# Altium schematic symbol library Isolator.SchLib: 324 symbols (part 1 of 4)
Pins are listed as number, name and electrical type; pins without a type are passive.

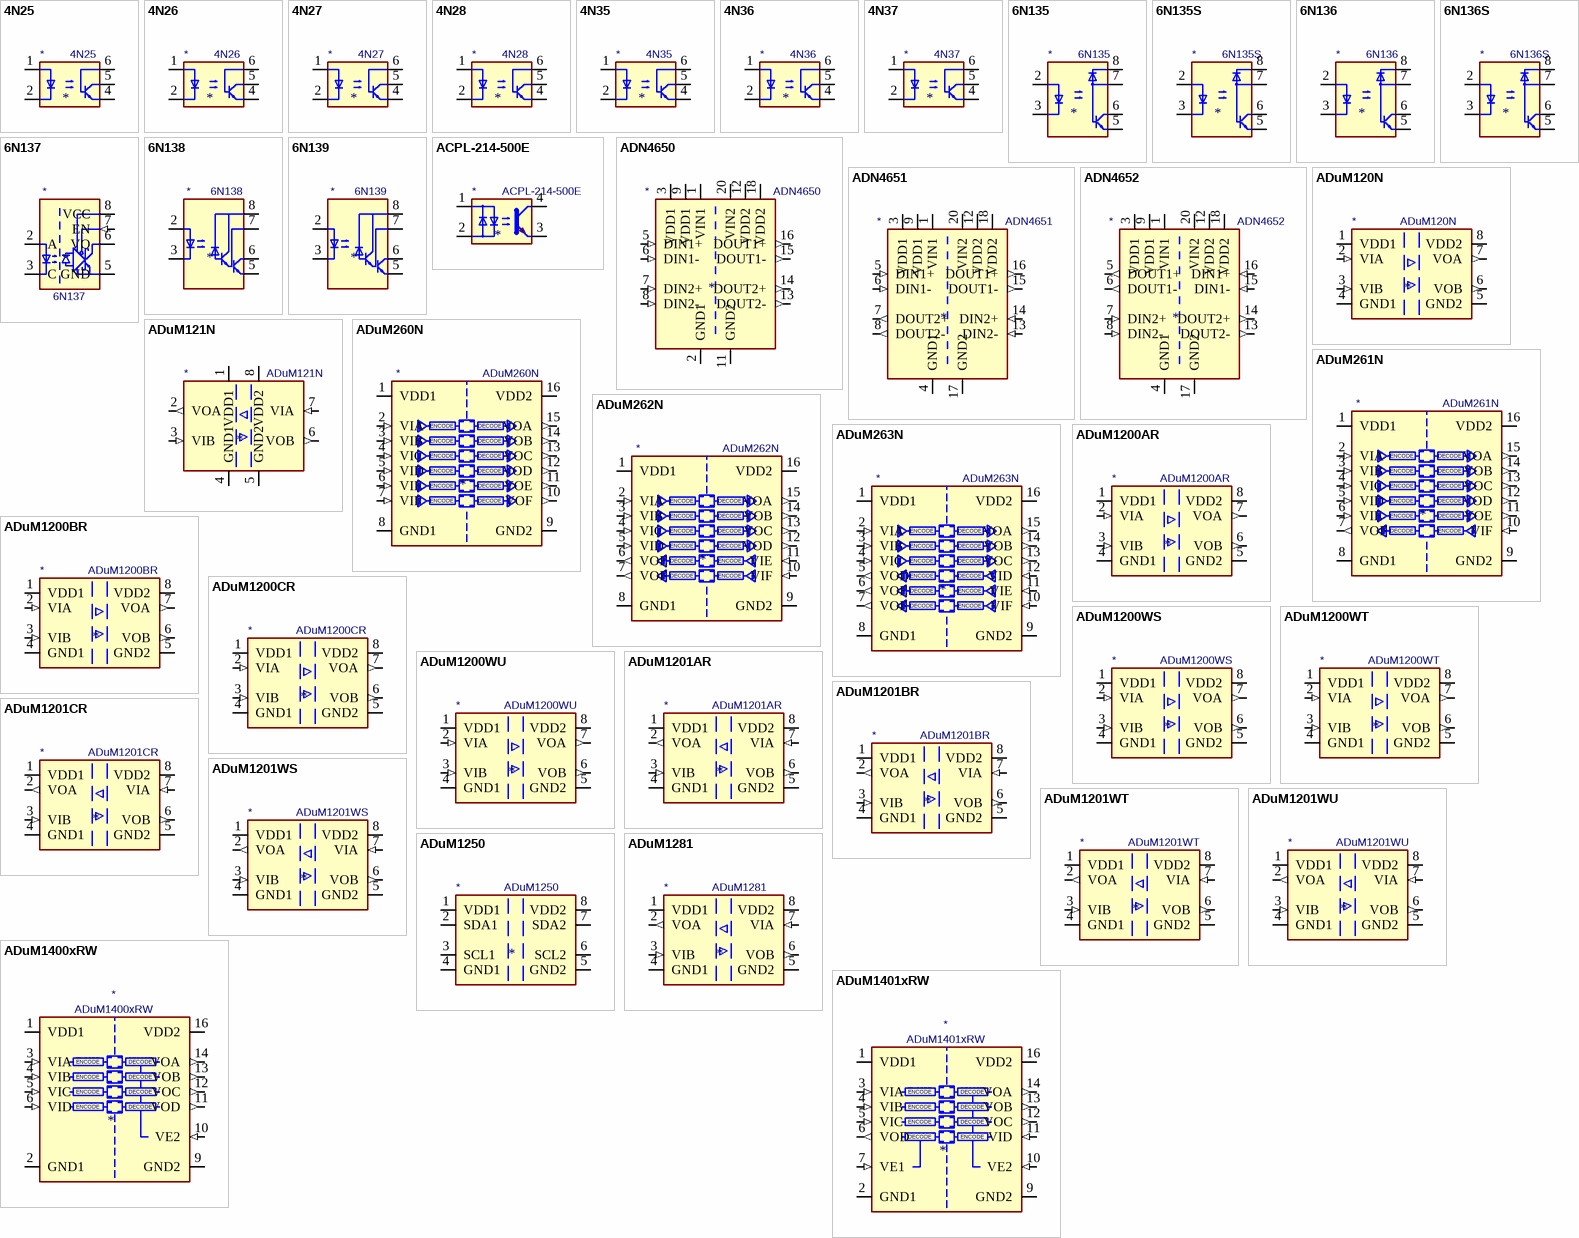
[diagram p0: symbols 4N25 to ADuM1401xRW]

## 4N25
designator *  value 4N25
ki_keywords: NPN DC Optocoupler Base Connected; ki_description: DC Optocoupler Base Connected, Vce 30V, CTR 20%, Viso 2500V, DIP6; ki_fp_filters: DIP*W7.62mm*; Footprint: Package_DIP:DIP-6_W7.62mm; Supplier: https://www.vishay.com/docs/83725/4n25.pdf
footprint DIP-6_W7.62mm
pins: 1, 2, 3 NC (in) hidden, 4, 5, 6

## 4N26
designator *  value 4N26
ki_keywords: NPN DC Optocoupler Base Connected; ki_description: DC Optocoupler Base Connected, Vce 30V, CTR 20%, Viso 1500V, DIP6; ki_fp_filters: DIP*W7.62mm*; Footprint: Package_DIP:DIP-6_W7.62mm; Supplier: https://www.vishay.com/docs/83725/4n25.pdf
footprint DIP-6_W7.62mm
pins: 1, 2, 3 NC (in) hidden, 4, 5, 6

## 4N27
designator *  value 4N27
ki_keywords: NPN DC Optocoupler Base Connected; ki_description: DC Optocoupler Base Connected, Vce 30V, CTR 10%, Viso 2500V, DIP6; ki_fp_filters: DIP*W7.62mm*; Footprint: Package_DIP:DIP-6_W7.62mm; Supplier: https://www.vishay.com/docs/83725/4n25.pdf
footprint DIP-6_W7.62mm
pins: 1, 2, 3 NC (in) hidden, 4, 5, 6

## 4N28
designator *  value 4N28
ki_keywords: NPN DC Optocoupler Base Connected; ki_description: DC Optocoupler Base Connected, Vce 30V, CTR 10%, Viso 2500V, DIP6; ki_fp_filters: DIP*W7.62mm*; Footprint: Package_DIP:DIP-6_W7.62mm; Supplier: https://www.vishay.com/docs/83725/4n25.pdf
footprint DIP-6_W7.62mm
pins: 1, 2, 3 NC (in) hidden, 4, 5, 6

## 4N35
designator *  value 4N35
ki_keywords: NPN DC Optocoupler Base Connected; ki_description: Optocoupler, Phototransistor Output, with Base Connection, Vce 70V, CTR 100%, Viso 5000V, DIP6; ki_fp_filters: DIP*W7.62mm*; Footprint: Package_DIP:DIP-6_W7.62mm; Supplier: https://www.vishay.com/docs/81181/4n35.pdf
footprint DIP-6_W7.62mm
pins: 1, 2, 3 NC (in) hidden, 4, 5, 6

## 4N36
designator *  value 4N36
ki_keywords: NPN DC Optocoupler Base Connected; ki_description: Optocoupler, Phototransistor Output, with Base Connection, Vce 70V, CTR 100%, Viso 5000V, DIP6; ki_fp_filters: DIP*W7.62mm*; Footprint: Package_DIP:DIP-6_W7.62mm; Supplier: https://www.vishay.com/docs/81181/4n35.pdf
footprint DIP-6_W7.62mm
pins: 1, 2, 3 NC (in) hidden, 4, 5, 6

## 4N37
designator *  value 4N37
ki_keywords: NPN DC Optocoupler Base Connected; ki_description: Optocoupler, Phototransistor Output, with Base Connection, Vce 70V, CTR 100%, Viso 5000V, DIP6; ki_fp_filters: DIP*W7.62mm*; Footprint: Package_DIP:DIP-6_W7.62mm; Supplier: https://www.vishay.com/docs/81181/4n35.pdf
footprint DIP-6_W7.62mm
pins: 1, 2, 3 NC (in) hidden, 4, 5, 6

## 6N135
designator *  value 6N135
ki_keywords: High Speed Optocoupler; ki_description: High Speed Optocoupler, TTL Compatible, CTR 18%, DIP8; ki_fp_filters: DIP*W7.62mm*; Footprint: Package_DIP:DIP-8_W7.62mm; Supplier: https://optoelectronics.liteon.com/upload/download/DS70-2008-0032/6N135-L%206N136-L%20series.pdf
footprint DIP-8_W7.62mm
pins: 1 NC (in) hidden, 2, 3, 4 NC (in) hidden, 5, 6, 7, 8

## 6N135S
designator *  value 6N135S
ki_keywords: High Speed Optocoupler; ki_description: High Speed Optocoupler, TTL Compatible, CTR 18%, SMDIP8; ki_fp_filters: SMDIP*W9.53mm*; Footprint: Package_DIP:SMDIP-8_W9.53mm; Supplier: https://optoelectronics.liteon.com/upload/download/DS70-2008-0032/6N135-L%206N136-L%20series.pdf
footprint SMDIP-8_W9.53mm
pins: 1 NC (in) hidden, 2, 3, 4 NC (in) hidden, 5, 6, 7, 8

## 6N136
designator *  value 6N136
ki_keywords: High Speed Optocoupler; ki_description: High Speed Optocoupler, TTL Compatible, CTR 24%, DIP8; ki_fp_filters: DIP*W7.62mm*; Footprint: Package_DIP:DIP-8_W7.62mm; Supplier: https://optoelectronics.liteon.com/upload/download/DS70-2008-0032/6N135-L%206N136-L%20series.pdf
footprint DIP-8_W7.62mm
pins: 1 NC (in) hidden, 2, 3, 4 NC (in) hidden, 5, 6, 7, 8

## 6N136S
designator *  value 6N136S
ki_keywords: High Speed Optocoupler; ki_description: High Speed Optocoupler, TTL Compatible, CTR 18%, SMDIP8; ki_fp_filters: SMDIP*W9.53mm*; Footprint: Package_DIP:SMDIP-8_W9.53mm; Supplier: https://optoelectronics.liteon.com/upload/download/DS70-2008-0032/6N135-L%206N136-L%20series.pdf
footprint SMDIP-8_W9.53mm
pins: 1 NC (in) hidden, 2, 3, 4 NC (in) hidden, 5, 6, 7, 8

## 6N137
designator *  value 6N137
ki_keywords: High speed optically coupled gates enable; ki_description: Single High Speed LSTTL/TTL Compatible Optocoupler with enable, dV/dt 1000/us, VCM 10, max 7V VCC, DIP-8; ki_fp_filters: DIP*W7.62mm*; Footprint: Package_DIP:DIP-8_W7.62mm; Supplier: https://docs.broadcom.com/docs/AV02-0940EN
footprint DIP-8_W7.62mm
pins: 1 NC (in) hidden, 2 A, 3 C, 5 GND (power), 6 VO (oc), 7 EN (in), 8 VCC (power)

## 6N138
designator *  value 6N138
ki_keywords: darlington optocoupler; ki_description: Low Input Current high Gain Split Darlington Optocouplers, -0.5V to 7V VDD, DIP-8; ki_fp_filters: DIP*W7.62mm* SMDIP*W9.53mm*; Supplier: http://www.onsemi.com/pub/Collateral/HCPL2731-D.pdf
pins: 1 NC (in) hidden, 2 C1, 3 C2, 4 NC (in) hidden, 5 GND, 6 VO2, 7 VO1, 8 VCC

## 6N139
designator *  value 6N139
ki_keywords: darlington optocoupler; ki_description: Low Input Current high Gain Split Darlington Optocouplers, -0.5V to 18V VDD, DIP-8; ki_fp_filters: DIP*W7.62mm* SMDIP*W9.53mm*; Supplier: http://www.onsemi.com/pub/Collateral/HCPL2731-D.pdf
pins: 1 NC (in) hidden, 2 C1, 3 C2, 4 NC (in) hidden, 5 GND, 6 VO2, 7 VO1, 8 VCC

## ACPL-214-500E
designator *  value ACPL-214-500E
ki_keywords: npn ac dc ac-dc acdc phototransistor optocoupler optoisolator; ki_description: AC/DC Phototransistor Optocoupler, Vce 80V, CTR 20-400%, SOP-4; ki_fp_filters: SOP*4*4.4x2.6mm*P1.27mm*; Footprint: Package_SO:SOP-4_4.4x2.6mm_P1.27mm; Supplier: https://docs.broadcom.com/doc/AV02-0469EN
footprint SOP-4_4.4x2.6mm_P1.27mm
pins: 1, 2, 3, 4

## ADN4650
designator *  value ADN4650
ki_keywords: LVDS Isolator; ki_description: Dual-Channel LVDS Isolators, 5 kV RMS/3.75 kV RMS, 600 Mbps, SSOP-20; ki_fp_filters: SSOP*5.3x7.2mm*P0.65mm*; Footprint: Package_SO:SSOP-20_5.3x7.2mm_P0.65mm; Supplier: https://www.analog.com/media/en/technical-documentation/data-sheets/adn4650-4651-4652.pdf
footprint SSOP-20_5.3x7.2mm_P0.65mm
pins: 1 VIN1 (power), 2 GND1 (power), 3 VDD1 (power), 4 GND1 hidden, 5 DIN1+ (in), 6 DIN1- (in), 7 DIN2+ (in), 8 DIN2- (in), 9 VDD1 (power), 10 GND1 hidden, 11 GND2 (power), 12 VDD2 (power), 13 DOUT2- (out), 14 DOUT2+ (out), 15 DOUT1- (out), 16 DOUT1+ (out), 17 GND2 hidden, 18 VDD2 (power), 19 GND2 hidden, 20 VIN2 (power)

## ADN4651
designator *  value ADN4651
ki_keywords: LVDS Isolator; ki_description: Dual-Channel LVDS Isolators, 5 kV RMS/3.75 kV RMS, 600 Mbps, SSOP-20; ki_fp_filters: SSOP*5.3x7.2mm*P0.65mm*; Footprint: Package_SO:SSOP-20_5.3x7.2mm_P0.65mm; Supplier: https://www.analog.com/media/en/technical-documentation/data-sheets/adn4650-4651-4652.pdf
footprint SSOP-20_5.3x7.2mm_P0.65mm
pins: 1 VIN1 (power), 2 GND1 hidden, 3 VDD1 (power), 4 GND1 (power), 5 DIN1+ (in), 6 DIN1- (in), 7 DOUT2+ (out), 8 DOUT2- (out), 9 VDD1 (power), 10 GND1 hidden, 11 GND2 hidden, 12 VDD2 (power), 13 DIN2- (in), 14 DIN2+ (in), 15 DOUT1- (out), 16 DOUT1+ (out), 17 GND2 (power), 18 VDD2 (power), 19 GND2 hidden, 20 VIN2 (power)

## ADN4652
designator *  value ADN4652
ki_keywords: LVDS Isolator; ki_description: Dual-Channel LVDS Isolators, 5 kV RMS/3.75 kV RMS, 600 Mbps, SSOP-20; ki_fp_filters: SSOP*5.3x7.2mm*P0.65mm*; Footprint: Package_SO:SSOP-20_5.3x7.2mm_P0.65mm; Supplier: https://www.analog.com/media/en/technical-documentation/data-sheets/adn4650-4651-4652.pdf
footprint SSOP-20_5.3x7.2mm_P0.65mm
pins: 1 VIN1 (power), 2 GND1 hidden, 3 VDD1 (power), 4 GND1 (power), 5 DOUT1+ (out), 6 DOUT1- (out), 7 DIN2+ (in), 8 DIN2- (in), 9 VDD1 (power), 10 GND1 hidden, 11 GND2 hidden, 12 VDD2 (power), 13 DOUT2- (out), 14 DOUT2+ (out), 15 DIN1- (in), 16 DIN1+ (in), 17 GND2 (power), 18 VDD2 (power), 19 GND2 hidden, 20 VIN2 (power)

## ADuM120N
designator *  value ADuM120N
ki_keywords: Dual-channel digital isolator; ki_description: Dual-channel digital isolator,1.8 to 5V, 150Mbs, 3kV; ki_fp_filters: SOIC*3.9x4.9mm*P1.27mm*; Footprint: Package_SO:SOIC-8_3.9x4.9mm_P1.27mm; Supplier: https://www.analog.com/media/en/technical-documentation/data-sheets/ADuM120N_121N.pdf
footprint SOIC-8_3.9x4.9mm_P1.27mm
pins: 1 VDD1 (power), 2 VIA (in), 3 VIB (in), 4 GND1 (power), 5 GND2 (power), 6 VOB (out), 7 VOA (out), 8 VDD2 (power)

## ADuM121N
designator *  value ADuM121N
ki_keywords: Dual-channel digital isolator; ki_description: Dual-channel digital isolator,1.8 to 5V, 150Mbs, 3kV; ki_fp_filters: SOIC*3.9x4.9mm*P1.27mm*; Footprint: Package_SO:SOIC-8_3.9x4.9mm_P1.27mm; Supplier: https://www.analog.com/media/en/technical-documentation/data-sheets/ADuM120N_121N.pdf
footprint SOIC-8_3.9x4.9mm_P1.27mm
pins: 1 VDD1 (power), 2 VOA (out), 3 VIB (in), 4 GND1 (power), 5 GND2 (power), 6 VOB (out), 7 VIA (in), 8 VDD2 (power)

## ADuM260N
designator *  value ADuM260N
ki_keywords: digital isolator galvanic isopower; ki_description: 5.0 kV RMS, 6-Channel Digital Isolator, 0 reverse channels, SOIC-16; ki_fp_filters: SOIC*7.5x12.8mm*P1.27mm*; Footprint: Package_SO:SOIC-16W_7.5x12.8mm_P1.27mm; Supplier: http://www.analog.com/media/en/technical-documentation/data-sheets/ADuM260N-261N-262N-263N.pdf
footprint SOIC-16W_7.5x12.8mm_P1.27mm
pins: 1 VDD1 (power), 2 VIA (in), 3 VIB (in), 4 VIC (in), 5 VID (in), 6 VIE (in), 7 VIF (in), 8 GND1 (power), 9 GND2 (power), 10 VOF (out), 11 VOE (out), 12 VOD (out), 13 VOC (out), 14 VOB (out), 15 VOA (out), 16 VDD2 (power)
text: ENCODE; DECODE

## ADuM261N
designator *  value ADuM261N
ki_keywords: digital isolator galvanic isopower; ki_description: 5.0 kV RMS, 6-Channel Digital Isolator, 1 reverse channels, SOIC-16; ki_fp_filters: SOIC*7.5x12.8mm*P1.27mm*; Footprint: Package_SO:SOIC-16W_7.5x12.8mm_P1.27mm; Supplier: http://www.analog.com/media/en/technical-documentation/data-sheets/ADuM260N-261N-262N-263N.pdf
footprint SOIC-16W_7.5x12.8mm_P1.27mm
pins: 1 VDD1 (power), 2 VIA (in), 3 VIB (in), 4 VIC (in), 5 VID (in), 6 VIE (in), 7 VOF (out), 8 GND1 (power), 9 GND2 (power), 10 VIF (in), 11 VOE (out), 12 VOD (out), 13 VOC (out), 14 VOB (out), 15 VOA (out), 16 VDD2 (power)
text: ENCODE; DECODE

## ADuM262N
designator *  value ADuM262N
ki_keywords: digital isolator galvanic isopower; ki_description: 5.0 kV RMS, 6-Channel Digital Isolator, 2 reverse channels, SOIC-16; ki_fp_filters: SOIC*7.5x12.8mm*P1.27mm*; Footprint: Package_SO:SOIC-16W_7.5x12.8mm_P1.27mm; Supplier: http://www.analog.com/media/en/technical-documentation/data-sheets/ADuM260N-261N-262N-263N.pdf
footprint SOIC-16W_7.5x12.8mm_P1.27mm
pins: 1 VDD1 (power), 2 VIA (in), 3 VIB (in), 4 VIC (in), 5 VID (in), 6 VOE (out), 7 VOF (out), 8 GND1 (power), 9 GND2 (power), 10 VIF (in), 11 VIE (in), 12 VOD (out), 13 VOC (out), 14 VOB (out), 15 VOA (out), 16 VDD2 (power)
text: ENCODE; DECODE

## ADuM263N
designator *  value ADuM263N
ki_keywords: digital isolator galvanic isopower; ki_description: 5.0 kV RMS, 6-Channel Digital Isolator, 3 reverse channels, SOIC-16; ki_fp_filters: SOIC*7.5x12.8mm*P1.27mm*; Footprint: Package_SO:SOIC-16W_7.5x12.8mm_P1.27mm; Supplier: http://www.analog.com/media/en/technical-documentation/data-sheets/ADuM260N-261N-262N-263N.pdf
footprint SOIC-16W_7.5x12.8mm_P1.27mm
pins: 1 VDD1 (power), 2 VIA (in), 3 VIB (in), 4 VIC (in), 5 VOD (out), 6 VOE (out), 7 VOF (out), 8 GND1 (power), 9 GND2 (power), 10 VIF (in), 11 VIE (in), 12 VID (in), 13 VOC (out), 14 VOB (out), 15 VOA (out), 16 VDD2 (power)
text: ENCODE; DECODE

## ADuM1200AR
designator *  value ADuM1200AR
ki_keywords: Dual-channel digital isolator; ki_description: Dual-channel digital isolator, Bidirectional communication, 3V/5V level translation, SOIC-8; ki_fp_filters: SOIC*3.9x4.9mm*P1.27mm*; Footprint: Package_SO:SOIC-8_3.9x4.9mm_P1.27mm; Supplier: https://www.analog.com/media/en/technical-documentation/data-sheets/ADuM1200_1201.pdf
footprint SOIC-8_3.9x4.9mm_P1.27mm
pins: 1 VDD1 (power), 2 VIA (in), 3 VIB (in), 4 GND1 (power), 5 GND2 (power), 6 VOB (out), 7 VOA (out), 8 VDD2 (power)

## ADuM1200BR
designator *  value ADuM1200BR
ki_keywords: 2Ch Dual Digital Isolator 10Mbps; ki_description: Dual-Channel Digital Isolator, 10Mbps 50ns, bidirectional communication, 3V/5V level translation, SOIC-8; ki_fp_filters: SOIC*3.9x4.9mm*P1.27mm*; Footprint: Package_SO:SOIC-8_3.9x4.9mm_P1.27mm; Supplier: https://www.analog.com/static/imported-files/data_sheets/ADuM1200_1201.pdf
footprint SOIC-8_3.9x4.9mm_P1.27mm
pins: 1 VDD1 (power), 2 VIA (in), 3 VIB (in), 4 GND1 (power), 5 GND2 (power), 6 VOB (out), 7 VOA (out), 8 VDD2 (power)

## ADuM1200CR
designator *  value ADuM1200CR
ki_keywords: 2Ch Dual Digital Isolator 25Mbps; ki_description: Dual-Channel Digital Isolator, 25Mbps 45ns, bidirectional communication, 3V/5V level translation, SOIC-8; ki_fp_filters: SOIC*3.9x4.9mm*P1.27mm*; Footprint: Package_SO:SOIC-8_3.9x4.9mm_P1.27mm; Supplier: https://www.analog.com/static/imported-files/data_sheets/ADuM1200_1201.pdf
footprint SOIC-8_3.9x4.9mm_P1.27mm
pins: 1 VDD1 (power), 2 VIA (in), 3 VIB (in), 4 GND1 (power), 5 GND2 (power), 6 VOB (out), 7 VOA (out), 8 VDD2 (power)

## ADuM1200WS
designator *  value ADuM1200WS
ki_keywords: 2Ch Dual Digital Isolator 1Mbps; ki_description: Dual-Channel Digital Isolator, 1Mbps 150ns, Highest Tem. Grade, bidirectional communication, 3V/5V level translation, SOIC-8; ki_fp_filters: SOIC*3.9x4.9mm*P1.27mm*; Footprint: Package_SO:SOIC-8_3.9x4.9mm_P1.27mm; Supplier: https://www.analog.com/static/imported-files/data_sheets/ADuM1200_1201.pdf
footprint SOIC-8_3.9x4.9mm_P1.27mm
pins: 1 VDD1 (power), 2 VIA (in), 3 VIB (in), 4 GND1 (power), 5 GND2 (power), 6 VOB (out), 7 VOA (out), 8 VDD2 (power)

## ADuM1200WT
designator *  value ADuM1200WT
ki_keywords: 2Ch Dual Digital Isolator 10Mbps; ki_description: Dual-Channel Digital Isolator, 10Mbps 50ns, Highest Tem. Grade, bidirectional communication, 3V/5V level translation, SOIC-8; ki_fp_filters: SOIC*3.9x4.9mm*P1.27mm*; Footprint: Package_SO:SOIC-8_3.9x4.9mm_P1.27mm; Supplier: https://www.analog.com/static/imported-files/data_sheets/ADuM1200_1201.pdf
footprint SOIC-8_3.9x4.9mm_P1.27mm
pins: 1 VDD1 (power), 2 VIA (in), 3 VIB (in), 4 GND1 (power), 5 GND2 (power), 6 VOB (out), 7 VOA (out), 8 VDD2 (power)

## ADuM1200WU
designator *  value ADuM1200WU
ki_keywords: 2Ch Dual Digital Isolator 25Mbps; ki_description: Dual-Channel Digital Isolator, 25Mbps 45ns, Highest Tem. Grade, bidirectional communication, 3V/5V level translation, SOIC-8; ki_fp_filters: SOIC*3.9x4.9mm*P1.27mm*; Footprint: Package_SO:SOIC-8_3.9x4.9mm_P1.27mm; Supplier: https://www.analog.com/static/imported-files/data_sheets/ADuM1200_1201.pdf
footprint SOIC-8_3.9x4.9mm_P1.27mm
pins: 1 VDD1 (power), 2 VIA (in), 3 VIB (in), 4 GND1 (power), 5 GND2 (power), 6 VOB (out), 7 VOA (out), 8 VDD2 (power)

## ADuM1201AR
designator *  value ADuM1201AR
ki_keywords: Dual-channel digital isolator; ki_description: Dual-channel digital isolator, bidirectional communication, 3V/5V level translation, SOIC-8; ki_fp_filters: SOIC*3.9x4.9mm*P1.27mm*; Footprint: Package_SO:SOIC-8_3.9x4.9mm_P1.27mm; Supplier: https://www.analog.com/media/en/technical-documentation/data-sheets/ADuM1200_1201.pdf
footprint SOIC-8_3.9x4.9mm_P1.27mm
pins: 1 VDD1 (power), 2 VOA (out), 3 VIB (in), 4 GND1 (power), 5 GND2 (power), 6 VOB (out), 7 VIA (in), 8 VDD2 (power)

## ADuM1201BR
designator *  value ADuM1201BR
ki_keywords: 2Ch Dual Digital Isolator 10Mbps; ki_description: Dual-Channel Digital Isolator, 10Mbps 50ns, bidirectional communication, 3V/5V level translation, SOIC-8; ki_fp_filters: SOIC*3.9x4.9mm*P1.27mm*; Footprint: Package_SO:SOIC-8_3.9x4.9mm_P1.27mm; Supplier: https://www.analog.com/static/imported-files/data_sheets/ADuM1200_1201.pdf
footprint SOIC-8_3.9x4.9mm_P1.27mm
pins: 1 VDD1 (power), 2 VOA (out), 3 VIB (in), 4 GND1 (power), 5 GND2 (power), 6 VOB (out), 7 VIA (in), 8 VDD2 (power)

## ADuM1201CR
designator *  value ADuM1201CR
ki_keywords: 2Ch Dual Digital Isolator 25Mbps; ki_description: Dual-Channel Digital Isolator, 25Mbps 45ns, bidirectional communication, 3V/5V level translation, SOIC-8; ki_fp_filters: SOIC*3.9x4.9mm*P1.27mm*; Footprint: Package_SO:SOIC-8_3.9x4.9mm_P1.27mm; Supplier: https://www.analog.com/static/imported-files/data_sheets/ADuM1200_1201.pdf
footprint SOIC-8_3.9x4.9mm_P1.27mm
pins: 1 VDD1 (power), 2 VOA (out), 3 VIB (in), 4 GND1 (power), 5 GND2 (power), 6 VOB (out), 7 VIA (in), 8 VDD2 (power)

## ADuM1201WS
designator *  value ADuM1201WS
ki_keywords: 2Ch Dual Digital Isolator 1Mbps; ki_description: Dual-Channel Digital Isolator, 1Mbps 150ns, Highest Temp. Grade, bidirectional communication, 3V/5V level translation, SOIC-8; ki_fp_filters: SOIC*3.9x4.9mm*P1.27mm*; Footprint: Package_SO:SOIC-8_3.9x4.9mm_P1.27mm; Supplier: https://www.analog.com/static/imported-files/data_sheets/ADuM1200_1201.pdf
footprint SOIC-8_3.9x4.9mm_P1.27mm
pins: 1 VDD1 (power), 2 VOA (out), 3 VIB (in), 4 GND1 (power), 5 GND2 (power), 6 VOB (out), 7 VIA (in), 8 VDD2 (power)

## ADuM1201WT
designator *  value ADuM1201WT
ki_keywords: 2Ch Dual Digital Isolator 10Mbps; ki_description: Dual-Channel Digital Isolator, 10Mbps 50ns, Hihgest Temp. Grade, bidirectional communication, 3V/5V level translation, SOIC-8; ki_fp_filters: SOIC*3.9x4.9mm*P1.27mm*; Footprint: Package_SO:SOIC-8_3.9x4.9mm_P1.27mm; Supplier: https://www.analog.com/static/imported-files/data_sheets/ADuM1200_1201.pdf
footprint SOIC-8_3.9x4.9mm_P1.27mm
pins: 1 VDD1 (power), 2 VOA (out), 3 VIB (in), 4 GND1 (power), 5 GND2 (power), 6 VOB (out), 7 VIA (in), 8 VDD2 (power)

## ADuM1201WU
designator *  value ADuM1201WU
ki_keywords: 2Ch Dual Digital Isolator 25Mbps; ki_description: Dual-Channel Digital Isolator, 25Mbps 45ns, Highest Temp. Grade, bidirectional communication, 3V/5V level translation, SOIC-8; ki_fp_filters: SOIC*3.9x4.9mm*P1.27mm*; Footprint: Package_SO:SOIC-8_3.9x4.9mm_P1.27mm; Supplier: https://www.analog.com/static/imported-files/data_sheets/ADuM1200_1201.pdf
footprint SOIC-8_3.9x4.9mm_P1.27mm
pins: 1 VDD1 (power), 2 VOA (out), 3 VIB (in), 4 GND1 (power), 5 GND2 (power), 6 VOB (out), 7 VIA (in), 8 VDD2 (power)

## ADuM1250
designator *  value ADuM1250
ki_keywords: Dual-channel digital isolator I2C; ki_description: Dual-channel I2C digital isolator, Bidirectional communication, 3V/5V level translation, SOIC-8; ki_fp_filters: SOIC*3.9x4.9mm*P1.27mm*; Footprint: Package_SO:SOIC-8_3.9x4.9mm_P1.27mm; Supplier: https://www.analog.com/media/en/technical-documentation/data-sheets/ADuM1250_1251.pdf
footprint SOIC-8_3.9x4.9mm_P1.27mm
pins: 1 VDD1 (power), 2 SDA1 (io), 3 SCL1 (io), 4 GND1 (power), 5 GND2 (power), 6 SCL2 (io), 7 SDA2 (io), 8 VDD2 (power)

## ADuM1281
designator *  value ADuM1281
ki_keywords: Dual-channel digital isolator; ki_description: Dual-channel digital isolator, bidirectional communication, 3V/5V level translation, SOIC-8; ki_fp_filters: SOIC*3.9x4.9mm*P1.27mm*; Footprint: Package_SO:SOIC-8_3.9x4.9mm_P1.27mm; Supplier: https://www.analog.com/media/en/technical-documentation/data-sheets/ADuM1280_1281_1285_1286.pdf
footprint SOIC-8_3.9x4.9mm_P1.27mm
pins: 1 VDD1 (power), 2 VOA (out), 3 VIB (in), 4 GND1 (power), 5 GND2 (power), 6 VOB (out), 7 VIA (in), 8 VDD2 (power)

## ADuM1400xRW
designator *  value ADuM1400xRW
ki_keywords: Digital Isolator; ki_description: Quad Channel Digital Isolator, 10Mbps, SOIC-16; ki_fp_filters: SOIC*7.5x10.3mm*P1.27mm*; Footprint: Package_SO:SOIC-16W_7.5x10.3mm_P1.27mm; Supplier: https://www.analog.com/media/en/technical-documentation/data-sheets/ADUM1400_1401_1402.pdf
footprint SOIC-16W_7.5x10.3mm_P1.27mm
pins: 1 VDD1 (power), 2 GND1 (power), 3 VIA (in), 4 VIB (in), 5 VIC (in), 6 VID (in), 7 NC (in) hidden, 8 GND1 hidden, 9 GND2 (power), 10 VE2 (in), 11 VOD (out), 12 VOC (out), 13 VOB (out), 14 VOA (out), 15 GND2 hidden, 16 VDD2 (power)
text: ENCODE; DECODE

## ADuM1401xRW
designator *  value ADuM1401xRW
ki_keywords: Digital Isolator; ki_description: Quad Channel Digital Isolator, 10Mbps, SOIC-16; ki_fp_filters: SOIC*7.5x10.3mm*P1.27mm*; Footprint: Package_SO:SOIC-16W_7.5x10.3mm_P1.27mm; Supplier: https://www.analog.com/media/en/technical-documentation/data-sheets/ADUM1400_1401_1402.pdf
footprint SOIC-16W_7.5x10.3mm_P1.27mm
pins: 1 VDD1 (power), 2 GND1 (power), 3 VIA (in), 4 VIB (in), 5 VIC (in), 6 VOD (out), 7 VE1 (in), 8 GND1 hidden, 9 GND2 (power), 10 VE2 (in), 11 VID (in), 12 VOC (out), 13 VOB (out), 14 VOA (out), 15 GND2 hidden, 16 VDD2 (power)
text: ENCODE; DECODE

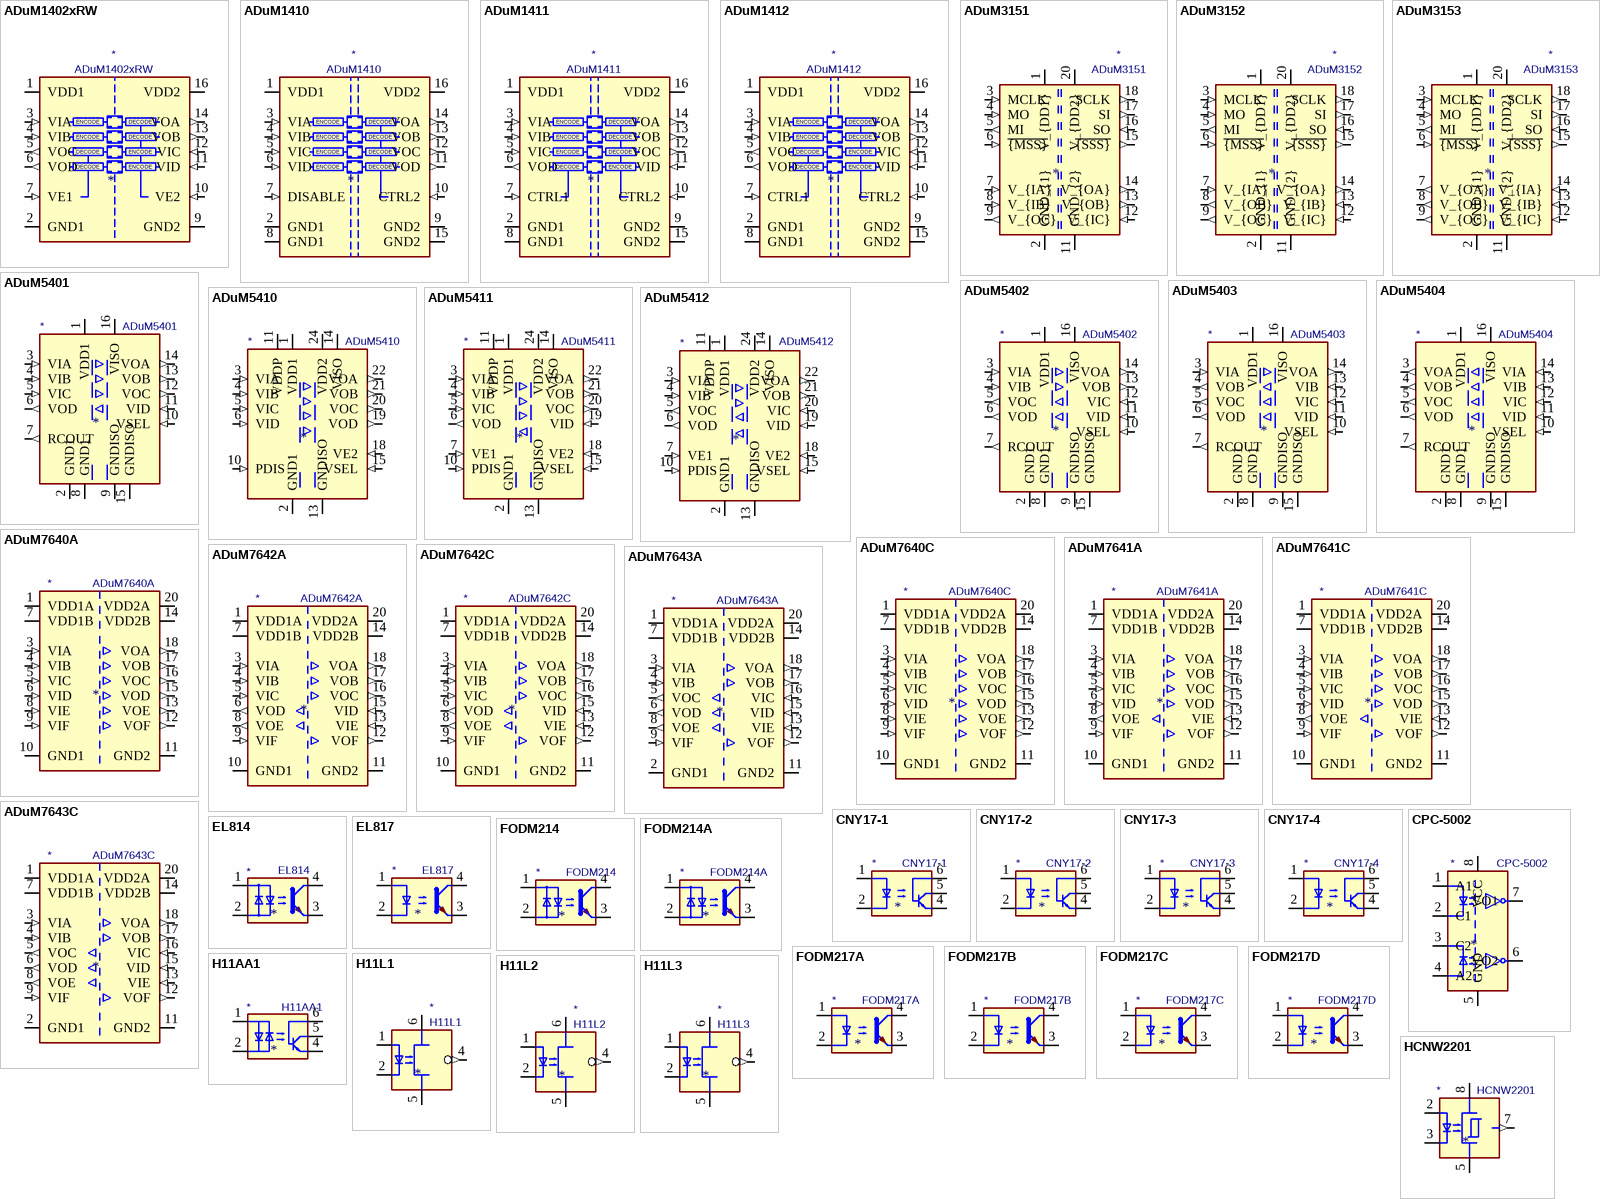
[diagram p1: symbols ADuM1402xRW to HCNW2201]

## ADuM1402xRW
designator *  value ADuM1402xRW
ki_keywords: Digital Isolator; ki_description: Quad Channel Digital Isolator, 10Mbps, SOIC-16; ki_fp_filters: SOIC*7.5x10.3mm*P1.27mm*; Footprint: Package_SO:SOIC-16W_7.5x10.3mm_P1.27mm; Supplier: https://www.analog.com/media/en/technical-documentation/data-sheets/ADUM1400_1401_1402.pdf
footprint SOIC-16W_7.5x10.3mm_P1.27mm
pins: 1 VDD1 (power), 2 GND1 (power), 3 VIA (in), 4 VIB (in), 5 VOC (out), 6 VOD (out), 7 VE1 (in), 8 GND1 hidden, 9 GND2 (power), 10 VE2 (in), 11 VID (in), 12 VIC (in), 13 VOB (out), 14 VOA (out), 15 GND2 hidden, 16 VDD2 (power)
text: ENCODE; DECODE

## ADuM1410
designator *  value ADuM1410
ki_keywords: Digital Isolator; ki_description: Quad Channel Digital Isolator,10Mbps,SO-16; ki_fp_filters: SOIC*7.5x10.3mm*P1.27mm*; Footprint: Package_SO:SOIC-16W_7.5x10.3mm_P1.27mm; Supplier: https://www.analog.com/media/en/technical-documentation/data-sheets/ADUM1410_1411_1412.pdf
footprint SOIC-16W_7.5x10.3mm_P1.27mm
pins: 1 VDD1 (power), 2 GND1 (power), 3 VIA (in), 4 VIB (in), 5 VIC (in), 6 VID (in), 7 DISABLE (in), 8 GND1 (power), 9 GND2 (power), 10 CTRL2 (in), 11 VOD (out), 12 VOC (out), 13 VOB (out), 14 VOA (out), 15 GND2 (power), 16 VDD2 (power)
text: ENCODE; DECODE

## ADuM1411
designator *  value ADuM1411
ki_keywords: Digital Isolator; ki_description: Quad Channel Digital Isolator,10Mbps,SO-16; ki_fp_filters: SOIC*7.5x10.3mm*P1.27mm*; Footprint: Package_SO:SOIC-16W_7.5x10.3mm_P1.27mm; Supplier: https://www.analog.com/media/en/technical-documentation/data-sheets/ADUM1410_1411_1412.pdf
footprint SOIC-16W_7.5x10.3mm_P1.27mm
pins: 1 VDD1 (power), 2 GND1 (power), 3 VIA (in), 4 VIB (in), 5 VIC (in), 6 VOD (out), 7 CTRL1 (in), 8 GND1 (power), 9 GND2 (power), 10 CTRL2 (in), 11 VID (in), 12 VOC (out), 13 VOB (out), 14 VOA (out), 15 GND2 (power), 16 VDD2 (power)
text: ENCODE; DECODE

## ADuM1412
designator *  value ADuM1412
ki_keywords: Digital Isolator; ki_description: Quad Channel Digital Isolator,10Mbps,SO-16; ki_fp_filters: SOIC*7.5x10.3mm*P1.27mm*; Footprint: Package_SO:SOIC-16W_7.5x10.3mm_P1.27mm; Supplier: https://www.analog.com/media/en/technical-documentation/data-sheets/ADUM1410_1411_1412.pdf
footprint SOIC-16W_7.5x10.3mm_P1.27mm
pins: 1 VDD1 (power), 2 GND1 (power), 3 VIA (in), 4 VIB (in), 5 VOC (out), 6 VOD (out), 7 CTRL1 (in), 8 GND1 (power), 9 GND2 (power), 10 CTRL2 (in), 11 VID (in), 12 VIC (in), 13 VOB (out), 14 VOA (out), 15 GND2 (power), 16 VDD2 (power)
text: ENCODE; DECODE

## ADuM3151
designator *  value ADuM3151
ki_keywords: spi isolated; ki_description: 3.75kV 7-Channel SPI Isolator, 1 Reverse Channel, SSOP-20; ki_fp_filters: SSOP*5.3x7.2mm*P0.65mm*; Footprint: Package_SO:SSOP-20_5.3x7.2mm_P0.65mm; Supplier: https://www.analog.com/media/en/technical-documentation/data-sheets/ADuM3151_3152_3153.pdf
footprint SSOP-20_5.3x7.2mm_P0.65mm
pins: 1 V_{DD1} (power), 2 GND_{1} (power), 3 MCLK (in), 4 MO (in), 5 MI (out), 6 ~{{MSS}} (in), 7 V_{IA} (in), 8 V_{IB} (in), 9 V_{OC} (out), 10 GND_{1} hidden, 11 GND_{2} (power), 12 V_{IC} (in), 13 V_{OB} (out), 14 V_{OA} (out), 15 ~{{SSS}} (out), 16 SO (in), 17 SI (out), 18 SCLK (out), 19 GND_{2} hidden, 20 V_{DD2} (power)

## ADuM3152
designator *  value ADuM3152
ki_keywords: spi isolated; ki_description: 3.75kV 7-Channel SPI Isolator, 2 Reverse Channels, SSOP-20; ki_fp_filters: SSOP*5.3x7.2mm*P0.65mm*; Footprint: Package_SO:SSOP-20_5.3x7.2mm_P0.65mm; Supplier: https://www.analog.com/media/en/technical-documentation/data-sheets/ADuM3151_3152_3153.pdf
footprint SSOP-20_5.3x7.2mm_P0.65mm
pins: 1 V_{DD1} (power), 2 GND_{1} (power), 3 MCLK (in), 4 MO (in), 5 MI (out), 6 ~{{MSS}} (in), 7 V_{IA} (in), 8 V_{OB} (out), 9 V_{OC} (out), 10 GND_{1} hidden, 11 GND_{2} (power), 12 V_{IC} (in), 13 V_{IB} (in), 14 V_{OA} (out), 15 ~{{SSS}} (out), 16 SO (in), 17 SI (out), 18 SCLK (out), 19 GND_{2} hidden, 20 V_{DD2} (power)

## ADuM3153
designator *  value ADuM3153
ki_keywords: spi isolated; ki_description: 3.75kV 7-Channel SPI Isolator, 3 Reverse Channels, SSOP-20; ki_fp_filters: SSOP*5.3x7.2mm*P0.65mm*; Footprint: Package_SO:SSOP-20_5.3x7.2mm_P0.65mm; Supplier: https://www.analog.com/media/en/technical-documentation/data-sheets/ADuM3151_3152_3153.pdf
footprint SSOP-20_5.3x7.2mm_P0.65mm
pins: 1 V_{DD1} (power), 2 GND_{1} (power), 3 MCLK (in), 4 MO (in), 5 MI (out), 6 ~{{MSS}} (in), 7 V_{OA} (out), 8 V_{OB} (out), 9 V_{OC} (out), 10 GND_{1} hidden, 11 GND_{2} (power), 12 V_{IC} (in), 13 V_{IB} (in), 14 V_{IA} (in), 15 ~{{SSS}} (out), 16 SO (in), 17 SI (out), 18 SCLK (out), 19 GND_{2} hidden, 20 V_{DD2} (power)

## ADuM5401
designator *  value ADuM5401
ki_keywords: digital isolator galvanic isopower; ki_description: Quad-Channel 2.5kV isolator with integrated isoPower dc-dc converter, 3 Input / 1 output, SOIC-16; ki_fp_filters: SOIC*7.5x10.3mm*P1.27mm*; Footprint: Package_SO:SOIC-16W_7.5x10.3mm_P1.27mm; Supplier: https://www.analog.com/media/en/technical-documentation/data-sheets/ADuM5401_5402_5403_5404.pdf
footprint SOIC-16W_7.5x10.3mm_P1.27mm
pins: 1 VDD1 (power), 2 GND1 (power), 3 VIA (in), 4 VIB (in), 5 VIC (in), 6 VOD (out), 7 RCOUT (out), 8 GND1 (power), 9 GNDISO (power), 10 VSEL (in), 11 VID (in), 12 VOC (out), 13 VOB (out), 14 VOA (out), 15 GNDISO (power), 16 VISO (power)

## ADuM5402
designator *  value ADuM5402
ki_keywords: digital isolator galvanic isopower; ki_description: Quad-Channel 2.5kV isolator with integrated isoPower dc-dc converter, 2 Input / 2 output, SOIC-16; ki_fp_filters: SOIC*7.5x10.3mm*P1.27mm*; Footprint: Package_SO:SOIC-16W_7.5x10.3mm_P1.27mm; Supplier: https://www.analog.com/media/en/technical-documentation/data-sheets/ADuM5401_5402_5403_5404.pdf
footprint SOIC-16W_7.5x10.3mm_P1.27mm
pins: 1 VDD1 (power), 2 GND1 (power), 3 VIA (in), 4 VIB (in), 5 VOC (out), 6 VOD (out), 7 RCOUT (out), 8 GND1 (power), 9 GNDISO (power), 10 VSEL (in), 11 VID (in), 12 VIC (in), 13 VOB (out), 14 VOA (out), 15 GNDISO (power), 16 VISO (power)

## ADuM5403
designator *  value ADuM5403
ki_keywords: digital isolator galvanic isopower; ki_description: Quad-Channel 2.5kV isolator with integrated isoPower dc-dc converter, 1 Input / 3 output, SOIC-16; ki_fp_filters: SOIC*7.5x10.3mm*P1.27mm*; Footprint: Package_SO:SOIC-16W_7.5x10.3mm_P1.27mm; Supplier: https://www.analog.com/media/en/technical-documentation/data-sheets/ADuM5401_5402_5403_5404.pdf
footprint SOIC-16W_7.5x10.3mm_P1.27mm
pins: 1 VDD1 (power), 2 GND1 (power), 3 VIA (in), 4 VOB (out), 5 VOC (out), 6 VOD (out), 7 RCOUT (out), 8 GND1 (power), 9 GNDISO (power), 10 VSEL (in), 11 VID (in), 12 VIC (in), 13 VIB (in), 14 VOA (out), 15 GNDISO (power), 16 VISO (power)

## ADuM5404
designator *  value ADuM5404
ki_keywords: digital isolator galvanic isopower; ki_description: Quad-Channel 2.5kV isolator with integrated isoPower dc-dc converter, 0 Input / 4 output, SOIC-16; ki_fp_filters: SOIC*7.5x10.3mm*P1.27mm*; Footprint: Package_SO:SOIC-16W_7.5x10.3mm_P1.27mm; Supplier: https://www.analog.com/media/en/technical-documentation/data-sheets/ADuM5401_5402_5403_5404.pdf
footprint SOIC-16W_7.5x10.3mm_P1.27mm
pins: 1 VDD1 (power), 2 GND1 (power), 3 VOA (out), 4 VOB (out), 5 VOC (out), 6 VOD (out), 7 RCOUT (out), 8 GND1 (power), 9 GNDISO (power), 10 VSEL (in), 11 VID (in), 12 VIC (in), 13 VIB (in), 14 VIA (in), 15 GNDISO (power), 16 VISO (power)

## ADuM5410
designator *  value ADuM5410
ki_keywords: digital isolator galvanic isopower; ki_description: Quad-Channel 2.5kV isolator with integrated dc-dc converter, 4 Input / 0 output, SSOP-24; ki_fp_filters: SSOP*5.3x8.2mm*P0.65mm*; Footprint: Package_SO:SSOP-24_5.3x8.2mm_P0.65mm; Supplier: https://www.analog.com/media/en/technical-documentation/data-sheets/ADuM5410-5411-5412.pdf
footprint SSOP-24_5.3x8.2mm_P0.65mm
pins: 1 VDD1 (power), 2 GND1 (power), 3 VIA (in), 4 VIB (in), 5 VIC (in), 6 VID (in), 7 NC (in) hidden, 8 NC (in) hidden, 9 GND1 hidden, 10 PDIS (in), 11 VDDP (power), 12 GND1 hidden, 13 GNDISO (power), 14 VISO (power), 15 VSEL (in), 16 GNDISO hidden, 17 NC (in) hidden, 18 VE2 (in), 19 VOD (out), 20 VOC (out), 21 VOB (out), 22 VOA (out), 23 GNDISO hidden, 24 VDD2 (power)

## ADuM5411
designator *  value ADuM5411
ki_keywords: digital isolator galvanic isopower; ki_description: Quad-Channel 2.5kV isolator with integrated dc-dc converter, 3 Input / 1 output, SSOP-24; ki_fp_filters: SSOP*5.3x8.2mm*P0.65mm*; Footprint: Package_SO:SSOP-24_5.3x8.2mm_P0.65mm; Supplier: https://www.analog.com/media/en/technical-documentation/data-sheets/ADuM5410-5411-5412.pdf
footprint SSOP-24_5.3x8.2mm_P0.65mm
pins: 1 VDD1 (power), 2 GND1 (power), 3 VIA (in), 4 VIB (in), 5 VIC (in), 6 VOD (out), 7 VE1 (in), 8 NC (in) hidden, 9 GND1 hidden, 10 PDIS (in), 11 VDDP (power), 12 GND1 hidden, 13 GNDISO (power), 14 VISO (power), 15 VSEL (in), 16 GNDISO hidden, 17 NC (in) hidden, 18 VE2 (in), 19 VID (in), 20 VOC (out), 21 VOB (out), 22 VOA (out), 23 GNDISO hidden, 24 VDD2 (power)

## ADuM5412
designator *  value ADuM5412
ki_keywords: digital isolator galvanic isopower; ki_description: Quad-Channel 2.5kV isolator with integrated dc-dc converter, 2 Input / 2 output, SSOP-24; ki_fp_filters: SSOP*5.3x8.2mm*P0.65mm*; Footprint: Package_SO:SSOP-24_5.3x8.2mm_P0.65mm; Supplier: https://www.analog.com/media/en/technical-documentation/data-sheets/ADuM5410-5411-5412.pdf
footprint SSOP-24_5.3x8.2mm_P0.65mm
pins: 1 VDD1 (power), 2 GND1 (power), 3 VIA (in), 4 VIB (in), 5 VOC (out), 6 VOD (out), 7 VE1 (in), 8 NC (in) hidden, 9 GND1 hidden, 10 PDIS (in), 11 VDDP (power), 12 GND1 hidden, 13 GNDISO (power), 14 VISO (power), 15 VSEL (in), 16 GNDISO hidden, 17 NC (in) hidden, 18 VE2 (in), 19 VID (in), 20 VIC (in), 21 VOB (out), 22 VOA (out), 23 GNDISO hidden, 24 VDD2 (power)

## ADuM7640A
designator *  value ADuM7640A
ki_keywords: 6-Channels Hex Digital Isolator 1Mbps; ki_description: Low Power Six-Channel 6/0 Digital Isolator, 1Mbps 25ns, Fail-Safe High, QSOP-20; ki_fp_filters: QSOP*3.9x8.7mm*P0.635mm*; Footprint: Package_SO:QSOP-20_3.9x8.7mm_P0.635mm; Supplier: https://www.analog.com/media/en/technical-documentation/data-sheets/ADuM7640_7641_7642_7643.pdf
footprint QSOP-20_3.9x8.7mm_P0.635mm
pins: 1 VDD1A (power), 2 GND1 hidden, 3 VIA (in), 4 VIB (in), 5 VIC (in), 6 VID (in), 7 VDD1B (power), 8 VIE (in), 9 VIF (in), 10 GND1 (power), 11 GND2 (power), 12 VOF (out), 13 VOE (out), 14 VDD2B (power), 15 VOD (out), 16 VOC (out), 17 VOB (out), 18 VOA (out), 19 GND2 hidden, 20 VDD2A (power)

## ADuM7640C
designator *  value ADuM7640C
ki_keywords: 6-Channels Hex Digital Isolator 25Mbps; ki_description: Low Power Six-Channel 6/0 Digital Isolator, 25Mbps 6ns, Fail-Safe High, QSOP-20; ki_fp_filters: QSOP*3.9x8.7mm*P0.635mm*; Footprint: Package_SO:QSOP-20_3.9x8.7mm_P0.635mm; Supplier: https://www.analog.com/media/en/technical-documentation/data-sheets/ADuM7640_7641_7642_7643.pdf
footprint QSOP-20_3.9x8.7mm_P0.635mm
pins: 1 VDD1A (power), 2 GND1 hidden, 3 VIA (in), 4 VIB (in), 5 VIC (in), 6 VID (in), 7 VDD1B (power), 8 VIE (in), 9 VIF (in), 10 GND1 (power), 11 GND2 (power), 12 VOF (out), 13 VOE (out), 14 VDD2B (power), 15 VOD (out), 16 VOC (out), 17 VOB (out), 18 VOA (out), 19 GND2 hidden, 20 VDD2A (power)

## ADuM7641A
designator *  value ADuM7641A
ki_keywords: 6-Channels Hex Digital Isolator 1Mbps; ki_description: Low Power Six-Channel 5/1 Digital Isolator, 1Mbps 25ns, Fail-Safe High, QSOP-20; ki_fp_filters: QSOP*3.9x8.7mm*P0.635mm*; Footprint: Package_SO:QSOP-20_3.9x8.7mm_P0.635mm; Supplier: https://www.analog.com/media/en/technical-documentation/data-sheets/ADuM7640_7641_7642_7643.pdf
footprint QSOP-20_3.9x8.7mm_P0.635mm
pins: 1 VDD1A (power), 2 GND1 hidden, 3 VIA (in), 4 VIB (in), 5 VIC (in), 6 VID (in), 7 VDD1B (power), 8 VOE (out), 9 VIF (in), 10 GND1 (power), 11 GND2 (power), 12 VOF (out), 13 VIE (in), 14 VDD2B (power), 15 VOD (out), 16 VOC (out), 17 VOB (out), 18 VOA (out), 19 GND2 hidden, 20 VDD2A (power)

## ADuM7641C
designator *  value ADuM7641C
ki_keywords: 6-Channels Hex Digital Isolator 25Mbps; ki_description: Low Power Six-Channel 5/1 Digital Isolator, 25Mbps 6ns, Fail-Safe High, QSOP-20; ki_fp_filters: QSOP*3.9x8.7mm*P0.635mm*; Footprint: Package_SO:QSOP-20_3.9x8.7mm_P0.635mm; Supplier: https://www.analog.com/media/en/technical-documentation/data-sheets/ADuM7640_7641_7642_7643.pdf
footprint QSOP-20_3.9x8.7mm_P0.635mm
pins: 1 VDD1A (power), 2 GND1 hidden, 3 VIA (in), 4 VIB (in), 5 VIC (in), 6 VID (in), 7 VDD1B (power), 8 VOE (out), 9 VIF (in), 10 GND1 (power), 11 GND2 (power), 12 VOF (out), 13 VIE (in), 14 VDD2B (power), 15 VOD (out), 16 VOC (out), 17 VOB (out), 18 VOA (out), 19 GND2 hidden, 20 VDD2A (power)

## ADuM7642A
designator *  value ADuM7642A
ki_keywords: 6-Channels Hex Digital Isolator 1Mbps; ki_description: Low Power Six-Channel 4/2 Digital Isolator, 1Mbps 25ns, Fail-Safe High, QSOP-20; ki_fp_filters: QSOP*3.9x8.7mm*P0.635mm*; Footprint: Package_SO:QSOP-20_3.9x8.7mm_P0.635mm; Supplier: https://www.analog.com/media/en/technical-documentation/data-sheets/ADuM7640_7641_7642_7643.pdf
footprint QSOP-20_3.9x8.7mm_P0.635mm
pins: 1 VDD1A (power), 2 GND1 hidden, 3 VIA (in), 4 VIB (in), 5 VIC (in), 6 VOD (out), 7 VDD1B (power), 8 VOE (out), 9 VIF (in), 10 GND1 (power), 11 GND2 (power), 12 VOF (out), 13 VIE (in), 14 VDD2B (power), 15 VID (in), 16 VOC (out), 17 VOB (out), 18 VOA (out), 19 GND2 hidden, 20 VDD2A (power)

## ADuM7642C
designator *  value ADuM7642C
ki_keywords: 6-Channels Hex Digital Isolator 25Mbps; ki_description: Low Power Six-Channel 4/2 Digital Isolator, 25Mbps 6ns, Fail-Safe High, QSOP-20; ki_fp_filters: QSOP*3.9x8.7mm*P0.635mm*; Footprint: Package_SO:QSOP-20_3.9x8.7mm_P0.635mm; Supplier: https://www.analog.com/media/en/technical-documentation/data-sheets/ADuM7640_7641_7642_7643.pdf
footprint QSOP-20_3.9x8.7mm_P0.635mm
pins: 1 VDD1A (power), 2 GND1 hidden, 3 VIA (in), 4 VIB (in), 5 VIC (in), 6 VOD (out), 7 VDD1B (power), 8 VOE (out), 9 VIF (in), 10 GND1 (power), 11 GND2 (power), 12 VOF (out), 13 VIE (in), 14 VDD2B (power), 15 VID (in), 16 VOC (out), 17 VOB (out), 18 VOA (out), 19 GND2 hidden, 20 VDD2A (power)

## ADuM7643A
designator *  value ADuM7643A
ki_keywords: 6-Channels Hex Digital Isolator 1Mbps; ki_description: Low Power Six-Channel 3/3 Digital Isolator, 1Mbps 25ns, Fail-Safe High, QSOP-20; ki_fp_filters: QSOP*3.9x8.7mm*P0.635mm*; Footprint: Package_SO:QSOP-20_3.9x8.7mm_P0.635mm; Supplier: https://www.analog.com/media/en/technical-documentation/data-sheets/ADuM7640_7641_7642_7643.pdf
footprint QSOP-20_3.9x8.7mm_P0.635mm
pins: 1 VDD1A (power), 2 GND1 (power), 3 VIA (in), 4 VIB (in), 5 VOC (out), 6 VOD (out), 7 VDD1B (power), 8 VOE (out), 9 VIF (in), 10 GND1 hidden, 11 GND2 (power), 12 VOF (out), 13 VIE (in), 14 VDD2B (power), 15 VID (in), 16 VIC (in), 17 VOB (out), 18 VOA (out), 19 GND2 hidden, 20 VDD2A (power)

## ADuM7643C
designator *  value ADuM7643C
ki_keywords: 6-Channels Hex Digital Isolator 25Mbps; ki_description: Low Power Six-Channel 3/3 Digital Isolator, 25Mbps 6ns, Fail-Safe High, QSOP-20; ki_fp_filters: QSOP*3.9x8.7mm*P0.635mm*; Footprint: Package_SO:QSOP-20_3.9x8.7mm_P0.635mm; Supplier: https://www.analog.com/media/en/technical-documentation/data-sheets/ADuM7640_7641_7642_7643.pdf
footprint QSOP-20_3.9x8.7mm_P0.635mm
pins: 1 VDD1A (power), 2 GND1 (power), 3 VIA (in), 4 VIB (in), 5 VOC (out), 6 VOD (out), 7 VDD1B (power), 8 VOE (out), 9 VIF (in), 10 GND1 hidden, 11 GND2 (power), 12 VOF (out), 13 VIE (in), 14 VDD2B (power), 15 VID (in), 16 VIC (in), 17 VOB (out), 18 VOA (out), 19 GND2 hidden, 20 VDD2A (power)

## CNY17-1
designator *  value CNY17-1
ki_keywords: NPN DC Optocoupler Base Connected; ki_description: DC Optocoupler Base Connected, Vce 70V, CTR 40-80%, Viso 5000V (RMS), DIP6; ki_fp_filters: DIP*W7.62mm* DIP*W10.16mm* SMDIP*W9.53mm*; Supplier: http://www.vishay.com/docs/83606/cny17.pdf
pins: 1, 2, 3 NC (in) hidden, 4, 5, 6

## CNY17-2
designator *  value CNY17-2
ki_keywords: NPN DC Optocoupler Base Connected; ki_description: DC Optocoupler Base Connected, Vce 70V, CTR 63-125%, Viso 5000V (RMS), DIP6; ki_fp_filters: DIP*W7.62mm* DIP*W10.16mm* SMDIP*W9.53mm*; Supplier: http://www.vishay.com/docs/83606/cny17.pdf
pins: 1, 2, 3 NC (in) hidden, 4, 5, 6

## CNY17-3
designator *  value CNY17-3
ki_keywords: NPN DC Optocoupler Base Connected; ki_description: DC Optocoupler Base Connected, Vce 70V, CTR 100-200%, Viso 5000V (RMS), DIP6; ki_fp_filters: DIP*W7.62mm* DIP*W10.16mm* SMDIP*W9.53mm*; Supplier: http://www.vishay.com/docs/83606/cny17.pdf
pins: 1, 2, 3 NC (in) hidden, 4, 5, 6

## CNY17-4
designator *  value CNY17-4
ki_keywords: NPN DC Optocoupler Base Connected; ki_description: DC Optocoupler Base Connected, Vce 70V, CTR 160-320%, Viso 5000V (RMS), DIP6; ki_fp_filters: DIP*W7.62mm* DIP*W10.16mm* SMDIP*W9.53mm*; Supplier: http://www.vishay.com/docs/83606/cny17.pdf
pins: 1, 2, 3 NC (in) hidden, 4, 5, 6

## CPC-5002
designator *  value CPC-5002
ki_keywords: High speed optically coupled gates; ki_description: Dual High Speed CMOS Compatible Optocoupler, dV/dt 5000/us, VCM 20, -0.3V to 6.5V VCC, DIP-8; ki_fp_filters: DIP*W7.62mm*; Footprint: Package_DIP:DIP-8_W7.62mm; Supplier: http://www.ixysic.com/home/pdfs.nsf/www/CPC5002.pdf
footprint DIP-8_W7.62mm
pins: 1 A1, 2 C1, 3 C2, 4 A2, 5 GND (power), 6 VO2 (oc), 7 VO1 (oc), 8 VCC (power)

## EL814
designator *  value EL814
ki_keywords: NPN AC DC Optocoupler; ki_description: AC/DC NPN Optocoupler, DIP4/SMD4; ki_fp_filters: DIP*W7.62mm* DIP*W10.16mm* SMDIP*W9.53mm*; Supplier: http://www.everlight.com/file/ProductFile/EL814.pdf
pins: 1, 2, 3, 4

## EL817
designator *  value EL817
ki_keywords: NPN DC Optocoupler; ki_description: DC Optocoupler, Vce 35V, DIP-4; ki_fp_filters: DIP*W7.62mm*; Footprint: Package_DIP:DIP-4_W7.62mm; Supplier: http://www.everlight.com/file/ProductFile/EL817.pdf
footprint DIP-4_W7.62mm
pins: 1, 2, 3, 4

## FODM214
designator *  value FODM214
ki_keywords: AC DC Phototransistor Optocoupler; ki_description: AC/DC Optocoupler, Vce 80V, CTR 20-400%, SOP-4; ki_fp_filters: SOP*4.4x2.6mm*P1.27mm*; Footprint: Package_SO:SOP-4_4.4x2.6mm_P1.27mm; Supplier: https://www.onsemi.com/pub/Collateral/FODM214-D.PDF
footprint SOP-4_4.4x2.6mm_P1.27mm
pins: 1, 2, 3, 4

## FODM214A
designator *  value FODM214A
ki_keywords: AC DC Phototransistor Optocoupler; ki_description: AC/DC Optocoupler, Vce 80V, CTR 50-250%, SOP-4; ki_fp_filters: SOP*4.4x2.6mm*P1.27mm*; Footprint: Package_SO:SOP-4_4.4x2.6mm_P1.27mm; Supplier: https://www.onsemi.com/pub/Collateral/FODM214-D.PDF
footprint SOP-4_4.4x2.6mm_P1.27mm
pins: 1, 2, 3, 4

## FODM217A
designator *  value FODM217A
ki_keywords: DC Phototransistor Optocoupler; ki_description: DC Optocoupler, Vce 80V, CTR 80-160%, SOP-4; ki_fp_filters: SOP*4.4x2.6mm*P1.27mm*; Footprint: Package_SO:SOP-4_4.4x2.6mm_P1.27mm; Supplier: https://www.onsemi.com/pub/Collateral/FODM214-D.PDF
footprint SOP-4_4.4x2.6mm_P1.27mm
pins: 1, 2, 3, 4

## FODM217B
designator *  value FODM217B
ki_keywords: DC Phototransistor Optocoupler; ki_description: DC Optocoupler, Vce 80V, CTR 130-260%, SOP-4; ki_fp_filters: SOP*4.4x2.6mm*P1.27mm*; Footprint: Package_SO:SOP-4_4.4x2.6mm_P1.27mm; Supplier: https://www.onsemi.com/pub/Collateral/FODM214-D.PDF
footprint SOP-4_4.4x2.6mm_P1.27mm
pins: 1, 2, 3, 4

## FODM217C
designator *  value FODM217C
ki_keywords: DC Phototransistor Optocoupler; ki_description: DC Optocoupler, Vce 80V, CTR 200-400%, SOP-4; ki_fp_filters: SOP*4.4x2.6mm*P1.27mm*; Footprint: Package_SO:SOP-4_4.4x2.6mm_P1.27mm; Supplier: https://www.onsemi.com/pub/Collateral/FODM214-D.PDF
footprint SOP-4_4.4x2.6mm_P1.27mm
pins: 1, 2, 3, 4

## FODM217D
designator *  value FODM217D
ki_keywords: DC Phototransistor Optocoupler; ki_description: DC Optocoupler, Vce 80V, CTR 300-600%, SOP-4; ki_fp_filters: SOP*4.4x2.6mm*P1.27mm*; Footprint: Package_SO:SOP-4_4.4x2.6mm_P1.27mm; Supplier: https://www.onsemi.com/pub/Collateral/FODM214-D.PDF
footprint SOP-4_4.4x2.6mm_P1.27mm
pins: 1, 2, 3, 4

## H11AA1
designator *  value H11AA1
ki_keywords: NPN AC DC Optocoupler; ki_description: AC/DC NPN Optocoupler, DIP-6; ki_fp_filters: DIP*W7.62mm*; Footprint: Package_DIP:DIP-6_W7.62mm; Supplier: https://www.vishay.com/docs/83608/h11aa1.pdf
footprint DIP-6_W7.62mm
pins: 1, 2, 3 NC (in) hidden, 4, 5, 6

## H11L1
designator *  value H11L1
ki_keywords: High Speed Schmitt Optocoupler; ki_description: Schmitt Trigger Output Optocoupler, High Speed, DIP-6, 1.6mA turn on threshold; ki_fp_filters: DIP*W7.62mm* DIP*W10.16mm* SMDIP*W9.53mm*; Supplier: https://www.onsemi.com/pub/Collateral/H11L3M-D.PDF
pins: 1, 2, 3 (in) hidden, 4 (out), 5 (power), 6 (power)

## H11L2
designator *  value H11L2
ki_keywords: High Speed Schmitt Optocoupler; ki_description: Schmitt Trigger Output Optocoupler, High Speed, DIP-6, 10mA turn on threshold; ki_fp_filters: DIP*W7.62mm* DIP*W10.16mm* SMDIP*W9.53mm*; Supplier: https://www.onsemi.com/pub/Collateral/H11L3M-D.PDF
pins: 1, 2, 3 (in) hidden, 4 (out), 5 (power), 6 (power)

## H11L3
designator *  value H11L3
ki_keywords: High Speed Schmitt Optocoupler; ki_description: Schmitt Trigger Output Optocoupler, High Speed, DIP-6, 5mA turn on threshold; ki_fp_filters: DIP*W7.62mm* DIP*W10.16mm* SMDIP*W9.53mm*; Supplier: https://www.onsemi.com/pub/Collateral/H11L3M-D.PDF
pins: 1, 2, 3 (in) hidden, 4 (out), 5 (power), 6 (power)

## HCNW2201
designator *  value HCNW2201
ki_keywords: opto coupler schmitt output; ki_description: Opto Coupler, 1kV/us, 50V CMR, Schmitt trigger output, WDIP-8; ki_fp_filters: DIP*W10.16mm*; Footprint: Package_DIP:DIP-8_W10.16mm; Supplier: https://docs.broadcom.com/docs/AV02-0674EN
footprint DIP-8_W10.16mm
pins: 1 (in) hidden, 2, 3, 4 (in) hidden, 5 (power), 6 (in) hidden, 7 (out), 8 (power)

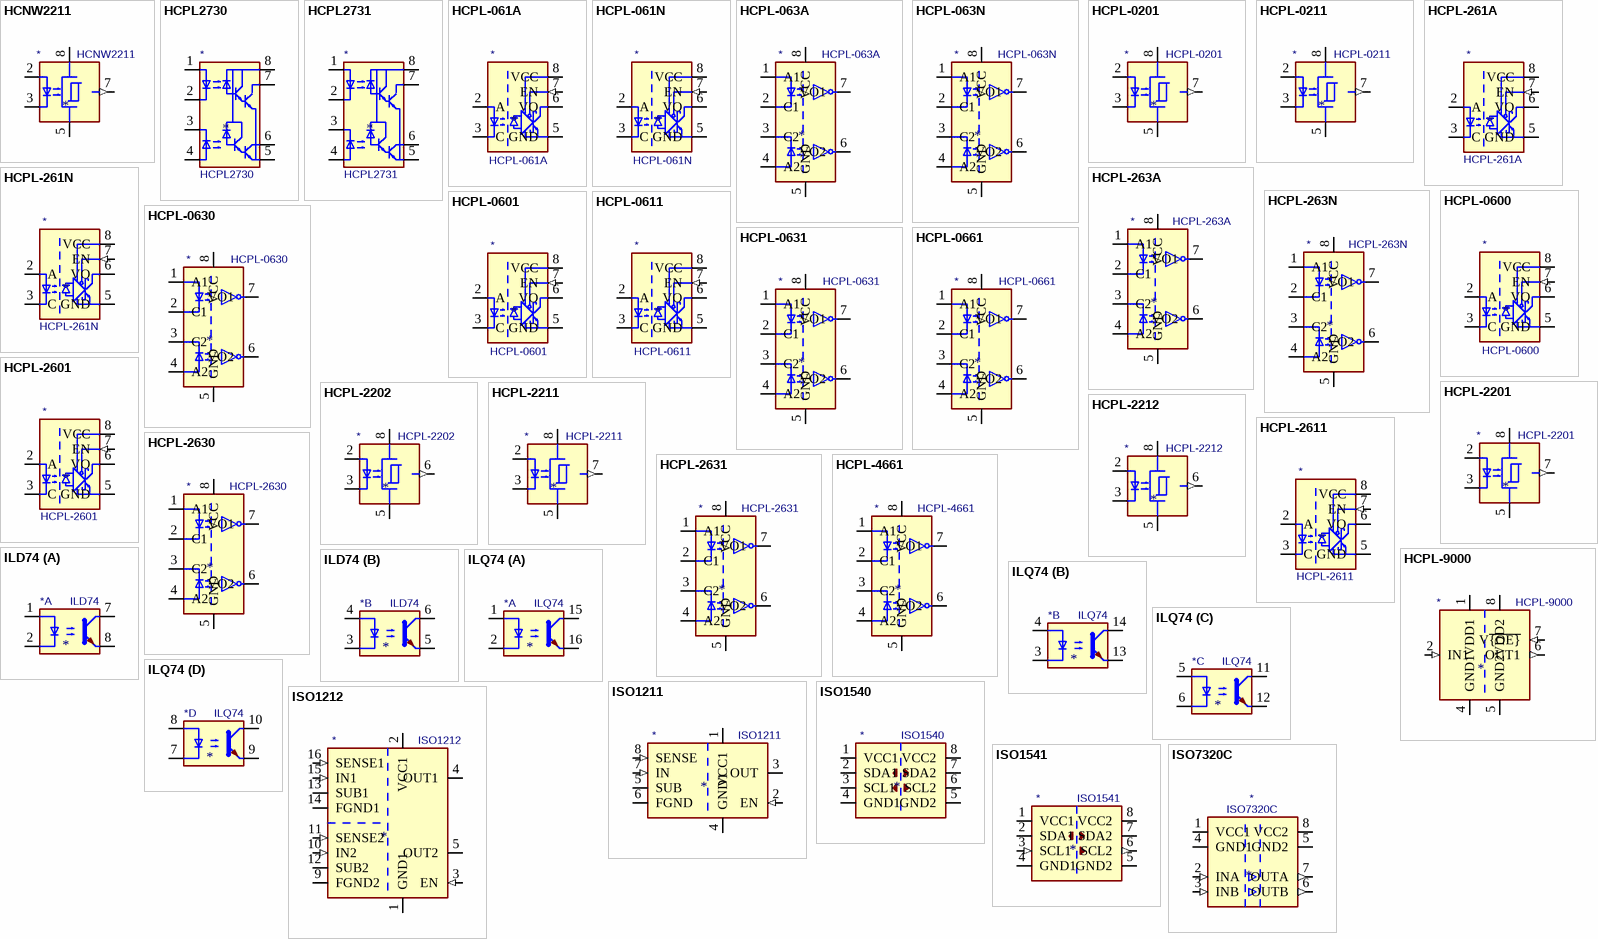
[diagram p2: symbols HCNW2211 to ISO7320C]

## HCNW2211
designator *  value HCNW2211
ki_keywords: opto coupler schmitt output; ki_description: Opto Coupler, 10kV/us, 1kV CMR, Schmitt trigger output, WDIP-8; ki_fp_filters: DIP*W10.16mm*; Footprint: Package_DIP:DIP-8_W10.16mm; Supplier: https://docs.broadcom.com/docs/AV02-0674EN
footprint DIP-8_W10.16mm
pins: 1 (in) hidden, 2, 3, 4 (in) hidden, 5 (power), 6 (in) hidden, 7 (out), 8 (power)

## HCPL2730
designator *  value HCPL2730
ki_keywords: darlington optocoupler; ki_description: Low Input Current high Gain Split Darlington Optocouplers; ki_fp_filters: DIP*W7.62mm* SMDIP*W9.53mm*; Supplier: http://www.onsemi.com/pub/Collateral/HCPL2731-D.pdf
pins: 1 A1, 2 C1, 3 C2, 4 A2, 5 GND, 6 VO2, 7 VO1, 8 VCC

## HCPL2731
designator *  value HCPL2731
ki_keywords: darlington optocoupler; ki_description: Low Input Current high Gain Split Darlington Optocouplers, DIP-8; ki_fp_filters: DIP*W7.62mm* SMDIP*W9.53mm*; Supplier: http://www.onsemi.com/pub/Collateral/HCPL2731-D.pdf
pins: 1 A1, 2 C1, 3 C2, 4 A2, 5 GND, 6 VO2, 7 VO1, 8 VCC

## HCPL-061A
designator *  value HCPL-061A
ki_keywords: High speed optically coupled gates enable; ki_description: Single High Speed HCMOS/LSTTL/TTL Compatible Optocoupler with enable, dV/dt 1000/us, VCM 50, -0.5V to 7V VCC, SOIC-8; ki_fp_filters: SOIC*3.9x4.9mm?P1.27mm*; Footprint: Package_SO:SOIC-8_3.9x4.9mm_P1.27mm; Supplier: http://docs.avagotech.com/docs/AV02-0391EN
footprint SOIC-8_3.9x4.9mm_P1.27mm
pins: 1 NC (in) hidden, 2 A, 3 C, 5 GND (power), 6 VO (oc), 7 EN (in), 8 VCC (power)

## HCPL-061N
designator *  value HCPL-061N
ki_keywords: High speed optically coupled gates enable; ki_description: Single High Speed HCMOS/LSTTL/TTL Compatible Optocoupler with enable, dV/dt 1000/us, VCM 1000, -0.5V to 7V VCC, SOIC-8; ki_fp_filters: SOIC*3.9x4.9mm?P1.27mm*; Footprint: Package_SO:SOIC-8_3.9x4.9mm_P1.27mm; Supplier: http://docs.avagotech.com/docs/AV02-0391EN
footprint SOIC-8_3.9x4.9mm_P1.27mm
pins: 1 NC (in) hidden, 2 A, 3 C, 5 GND (power), 6 VO (oc), 7 EN (in), 8 VCC (power)

## HCPL-063A
designator *  value HCPL-063A
ki_keywords: High speed optically coupled gates; ki_description: Dual High Speed HCMOS/LSTTL/TTL Compatible Optocoupler, dV/dt 1000/us, VCM 50, -0.5V to 7V VCC, SOIC-8; ki_fp_filters: SOIC*3.9x4.9mm?P1.27mm*; Footprint: Package_SO:SOIC-8_3.9x4.9mm_P1.27mm; Supplier: http://docs.avagotech.com/docs/AV02-0391EN
footprint SOIC-8_3.9x4.9mm_P1.27mm
pins: 1 A1, 2 C1, 3 C2, 4 A2, 5 GND (power), 6 VO2 (oc), 7 VO1 (oc), 8 VCC (power)

## HCPL-063N
designator *  value HCPL-063N
ki_keywords: High speed optically coupled gates; ki_description: Dual High Speed HCMOS/LSTTL/TTL Compatible Optocoupler, dV/dt 1000/us, VCM 1000, -0.5V to 7V VCC, SOIC-8; ki_fp_filters: SOIC*3.9x4.9mm?P1.27mm*; Footprint: Package_SO:SOIC-8_3.9x4.9mm_P1.27mm; Supplier: http://docs.avagotech.com/docs/AV02-0391EN
footprint SOIC-8_3.9x4.9mm_P1.27mm
pins: 1 A1, 2 C1, 3 C2, 4 A2, 5 GND (power), 6 VO2 (oc), 7 VO1 (oc), 8 VCC (power)

## HCPL-0201
designator *  value HCPL-0201
ki_keywords: opto coupler schmitt output; ki_description: Opto Coupler, 1kV/us, 50V CMR, Schmitt trigger output, SOIC-8; ki_fp_filters: SOIC*3.9x4.9mm*P1.27mm*; Footprint: Package_SO:SOIC-8_3.9x4.9mm_P1.27mm; Supplier: https://docs.broadcom.com/docs/AV02-0674EN
footprint SOIC-8_3.9x4.9mm_P1.27mm
pins: 1 (in) hidden, 2, 3, 4 (in) hidden, 5 (power), 6 (in) hidden, 7 (out), 8 (power)

## HCPL-0211
designator *  value HCPL-0211
ki_keywords: opto coupler schmitt output; ki_description: Opto Coupler, 5kV/us, 300V CMR, Schmitt trigger output, SOIC-8; ki_fp_filters: SOIC*3.9x4.9mm*P1.27mm*; Footprint: Package_SO:SOIC-8_3.9x4.9mm_P1.27mm; Supplier: https://docs.broadcom.com/docs/AV02-0674EN
footprint SOIC-8_3.9x4.9mm_P1.27mm
pins: 1 (in) hidden, 2, 3, 4 (in) hidden, 5 (power), 6 (in) hidden, 7 (out), 8 (power)

## HCPL-261A
designator *  value HCPL-261A
ki_keywords: High speed optically coupled gates enable; ki_description: Single High Speed HCMOS/LSTTL/TTL Compatible Optocoupler with enable, dV/dt 1000/us, VCM 50, -0.5V to 7V VCC, DIP-8; ki_fp_filters: DIP*W7.62mm*; Footprint: Package_DIP:DIP-8_W7.62mm; Supplier: http://docs.avagotech.com/docs/AV02-0391EN
footprint DIP-8_W7.62mm
pins: 1 NC (in) hidden, 2 A, 3 C, 5 GND (power), 6 VO (oc), 7 EN (in), 8 VCC (power)

## HCPL-261N
designator *  value HCPL-261N
ki_keywords: High speed optically coupled gates enable; ki_description: Single High Speed HCMOS/LSTTL/TTL Compatible Optocoupler with enable, dV/dt 1000/us, VCM 1000, -0.5V to 7V VCC, DIP-8; ki_fp_filters: DIP*W7.62mm*; Footprint: Package_DIP:DIP-8_W7.62mm; Supplier: http://docs.avagotech.com/docs/AV02-0391EN
footprint DIP-8_W7.62mm
pins: 1 NC (in) hidden, 2 A, 3 C, 5 GND (power), 6 VO (oc), 7 EN (in), 8 VCC (power)

## HCPL-263A
designator *  value HCPL-263A
ki_keywords: High speed optically coupled gates; ki_description: Dual High Speed HCMOS/LSTTL/TTL Compatible Optocoupler, dV/dt 1000/us, VCM 50, -0.5V to 7V VCC, DIP-8; ki_fp_filters: DIP*W7.62mm*; Footprint: Package_DIP:DIP-8_W7.62mm; Supplier: http://docs.avagotech.com/docs/AV02-0391EN
footprint DIP-8_W7.62mm
pins: 1 A1, 2 C1, 3 C2, 4 A2, 5 GND (power), 6 VO2 (oc), 7 VO1 (oc), 8 VCC (power)

## HCPL-263N
designator *  value HCPL-263N
ki_keywords: High speed optically coupled gates; ki_description: Dual High Speed HCMOS/LSTTL/TTL Compatible Optocoupler, dV/dt 1000/us, VCM 1000, -0.5V to 7V VCC, DIP-8; ki_fp_filters: DIP*W7.62mm*; Footprint: Package_DIP:DIP-8_W7.62mm; Supplier: http://docs.avagotech.com/docs/AV02-0391EN
footprint DIP-8_W7.62mm
pins: 1 A1, 2 C1, 3 C2, 4 A2, 5 GND (power), 6 VO2 (oc), 7 VO1 (oc), 8 VCC (power)

## HCPL-0600
designator *  value HCPL-0600
ki_keywords: High speed optically coupled gates enable; ki_description: Single High Speed LSTTL/TTL Compatible Optocoupler with enable, dV/dt 5000/us, VCM 1000, max 7V VCC, SOIC-8; ki_fp_filters: SOIC*3.9x4.9mm?P1.27mm*; Footprint: Package_SO:SOIC-8_3.9x4.9mm_P1.27mm; Supplier: https://docs.broadcom.com/docs/AV02-0940EN
footprint SOIC-8_3.9x4.9mm_P1.27mm
pins: 1 NC (in) hidden, 2 A, 3 C, 5 GND (power), 6 VO (oc), 7 EN (in), 8 VCC (power)

## HCPL-0601
designator *  value HCPL-0601
ki_keywords: High speed optically coupled gates enable; ki_description: Single High Speed LSTTL/TTL Compatible Optocoupler with enable, dV/dt 10000/us, VCM 1000, max 7V VCC, SOIC-8; ki_fp_filters: SOIC*3.9x4.9mm?P1.27mm*; Footprint: Package_SO:SOIC-8_3.9x4.9mm_P1.27mm; Supplier: https://docs.broadcom.com/docs/AV02-0940EN
footprint SOIC-8_3.9x4.9mm_P1.27mm
pins: 1 NC (in) hidden, 2 A, 3 C, 5 GND (power), 6 VO (oc), 7 EN (in), 8 VCC (power)

## HCPL-0611
designator *  value HCPL-0611
ki_keywords: High speed optically coupled gates enable; ki_description: Single High Speed LSTTL/TTL Compatible Optocoupler with enable, dV/dt 15000/us, VCM 1000, max 7V VCC, SOIC-8; ki_fp_filters: SOIC*3.9x4.9mm?P1.27mm*; Footprint: Package_SO:SOIC-8_3.9x4.9mm_P1.27mm; Supplier: https://docs.broadcom.com/docs/AV02-0940EN
footprint SOIC-8_3.9x4.9mm_P1.27mm
pins: 1 NC (in) hidden, 2 A, 3 C, 5 GND (power), 6 VO (oc), 7 EN (in), 8 VCC (power)

## HCPL-0630
designator *  value HCPL-0630
ki_keywords: High speed optically coupled gates; ki_description: Dual High Speed LSTTL/TTL Compatible Optocoupler, dV/dt 5000/us, VCM 1000, max 7V VCC, SOIC-8; ki_fp_filters: SOIC*3.9x4.9mm?P1.27mm*; Footprint: Package_SO:SOIC-8_3.9x4.9mm_P1.27mm; Supplier: https://docs.broadcom.com/docs/AV02-0940EN
footprint SOIC-8_3.9x4.9mm_P1.27mm
pins: 1 A1, 2 C1, 3 C2, 4 A2, 5 GND (power), 6 VO2 (oc), 7 VO1 (oc), 8 VCC (power)